# Altium footprint library Crystal.PcbLib: 6 footprints
Each footprint in its own frame and in the unit in brackets; x right, y up, seen from the top. Pads: shape width x height; smd on the part's side, far side on the other; paste and mask are expansions set on the pad; w line width, h text height; cw(c..) or ccw(c..) is an arc to the next point about the centre after c.
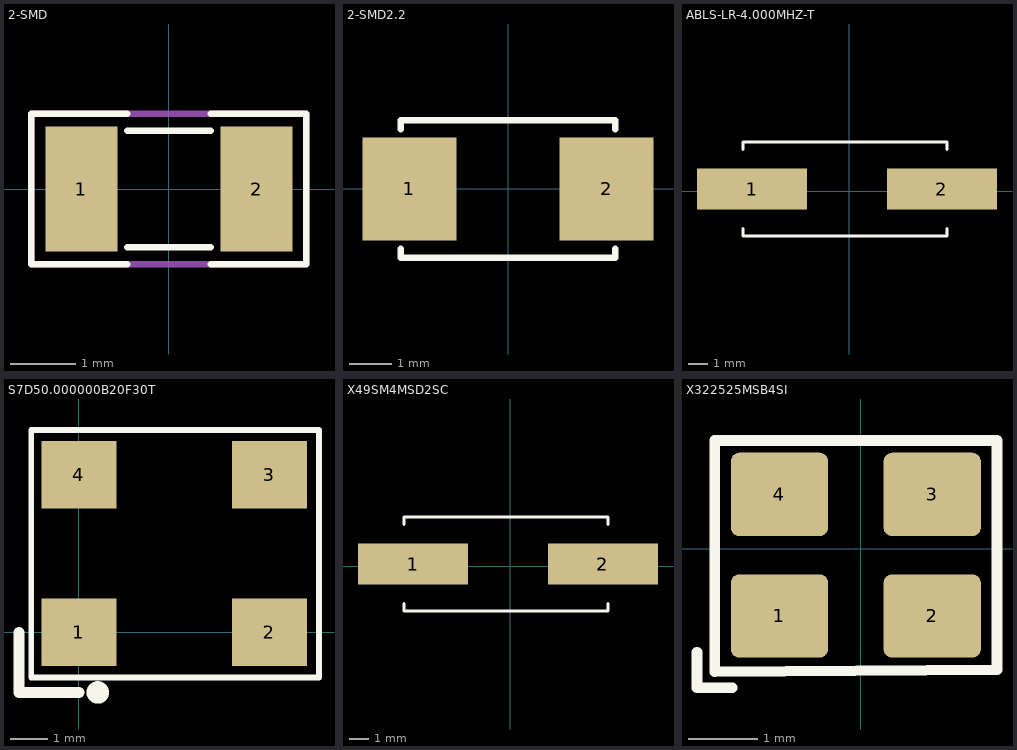
[diagram p0: the footprints below, top view; thin cyan lines are the x and y axes]

## 2-SMD [mm]
pads (2):
  rect 1.1x1.9 smd: 1(-1.335,0) 2(1.335,0)
Top Overlay:
  lines w0.1: -0.635,-1.143 -2.097,-1.143 -2.097,1.143 -0.635,1.143 ; -0.635,-0.889 0.635,-0.889 ; -0.635,0.889 0.635,0.889 ; 0.635,-1.143 2.094,-1.143 2.094,1.143 0.635,1.143
Mechanical 13:
  lines w0.1: -2.097,-1.143 2.094,-1.143 2.094,1.143 -2.097,1.143 -2.097,-1.143
  text ".Designator" at -1.859,-0.373 h0.8
Mechanical 15:
  lines w0.1: -2.097,-1.143 2.094,-1.143 2.094,1.143 -2.097,1.143 -2.097,-1.143
  text ".Comment" at -1.859,-0.373 h0.8
3D body "ABS07.STEP": height 0.89, standoff 0, extent -1.6,-0.749 1.6,0.749

## 2-SMD2.2 [mm] "5x3.2MM"
pads (2):
  rect 2.2x2.4 smd: 1(-2.3,0) 2(2.3,0)
Top Overlay:
  lines w0.152: -2.5,-1.4 -2.5,-1.6 2.5,-1.6 2.5,-1.4 ; -2.5,1.4 -2.5,1.6 2.5,1.6 2.5,1.4
3D body "ABM3.STEP": height 1.3, standoff 0, extent -2.5,-1.6 2.5,1.6

## ABLS-LR-4.000MHZ-T [mm]
pads (2):
  rect 5.6x2.1 smd: 1(-4.932,0.116) 2(4.72,0.116)
Top Overlay:
  lines w0.152: -5.4,-1.892 -5.4,-2.27 4.974,-2.27 4.974,-1.892 ; -5.4,2.124 -5.4,2.502 4.974,2.502 4.974,2.124

## S7D50.000000B20F30T [mm] "5x3.2MM"
pads (4):
  rect 2x1.8 smd: 1(0,0) 2(5.08,0) 3(5.08,4.2) 4(0,4.2)
Top Overlay:
  circle w0.3: c0.5,-1.6 r0.15
  lines w0.152: -1.27,-1.2 6.4,-1.2 6.4,5.4 -1.27,5.4 -1.27,-1.2
  lines w0.3: -1.6,0 -1.6,-1.6 0,-1.6
3D body: height 1.4, standoff 0, extent -1.084,-1.008 6.181,5.186

## X49SM4MSD2SC [mm]
pads (2):
  rect 5.6x2.1 smd: 1(-4.932,0.116) 2(4.72,0.116)
Top Overlay:
  lines w0.152: -5.4,-1.892 -5.4,-2.27 4.974,-2.27 4.974,-1.892 ; -5.4,2.124 -5.4,2.502 4.974,2.502 4.974,2.124

## X322525MSB4SI [mm]
pads (4):
  rrect20% 1.4x1.2 smd: 1(-1.173,-0.97) 2(1.027,-0.97) 3(1.027,0.78) 4(-1.173,0.78)
Top Overlay:
  lines w0.152: -2.359,-1.492 -2.359,-2 -1.851,-2 ; -2.102,-1.774 1.959,-1.746 1.959,-0.095 1.959,1.556 -2.102,1.556 -2.102,-1.774
3D body "NX3225SA v2.step": height 0.55, standoff 0, extent -1.673,-1.345 1.527,1.155